# EAGLE library part EDE1144 (library ede)
4x4 matrix keypad encoder
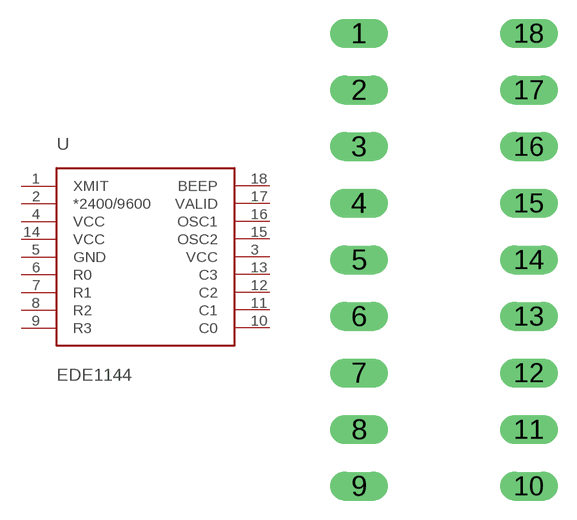
[diagram p3: symbol with the pads of DIP18; footprint DIP18]

Designator prefix U

## EDE1144  [DIP18]
1  XMIT
2  *2400/9600
3  VCC
4  VCC
5  GND
6  R0
7  R1
8  R2
9  R3
10  C0
11  C1
12  C2
13  C3
14  VCC
15  OSC2
16  OSC1
17  VALID
18  BEEP

## Footprint DIP18 (pad centres in mm)
drill 0.8 long: 1 -3.81,10.16; 2 -3.81,7.62; 3 -3.81,5.08; 4 -3.81,2.54; 5 -3.81,0; 6 -3.81,-2.54; 7 -3.81,-5.08; 8 -3.81,-7.62; 9 -3.81,-10.16; 10 3.81,-10.16; 11 3.81,-7.62; 12 3.81,-5.08; 13 3.81,-2.54; 14 3.81,0; 15 3.81,2.54; 16 3.81,5.08; 17 3.81,7.62; 18 3.81,10.16